# Altium schematic symbol library GRM155R61E105KA12D.SchLib: 1 symbol
Pins are listed as number, name and electrical type; pins without a type are passive.

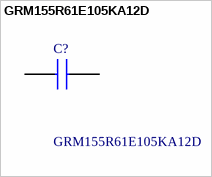
[diagram p0: symbol GRM155R61E105KA12D]

## GRM155R61E105KA12D
designator C?
MURATA - GRM155R61E105KA12D - CAP, MLCC, X5R, 1UF, 25V, 0402; Manufacturer_Name: Murata Electronics; Geometry.Height: 0.55mm; Manufacturer_Part_Number: GRM155R61E105KA12D; Mouser Part Number: 81-GRM155R61E105KA2D; Mouser Price/Stock: https://www.mouser.co.uk/ProductDetail/Murata-Electronics/GRM155R61E105KA12D?qs=hiffU4J9V6bE4a81t2Mv5A%3D%3D; Arrow Part Number: GRM155R61E105KA12D; Arrow Price/Stock: https://www.arrow.com/en/products/grm155r61e105ka12d/murata-manufacturing?region=nac; Datasheet Link: http://www.murata.com/~/media/webrenewal/support/library/catalog/products/capacitor/mlcc/c02e.pdf
footprint CAPC1005X55N
pins: 1, 2